# EAGLE library part PX11FS16NH (library con-jae)
Host Connector for PCMCIA Express Card 34mm MB-0127-2 Express Card Host Connector, JAE PX10BSB16 (SV 26-pol.)+ Express Card Host Connector Cage, JAE PX11FS16NH (Käfig für 34mm-Karten mit 4 Befestigungs- bzw. PE-Anschlusspunkten) Source: http://www.jae-connector.com/en/pdf/MB-0127-2E_PX10-11.pdf / PX11FS16NH SJ102129.pdf
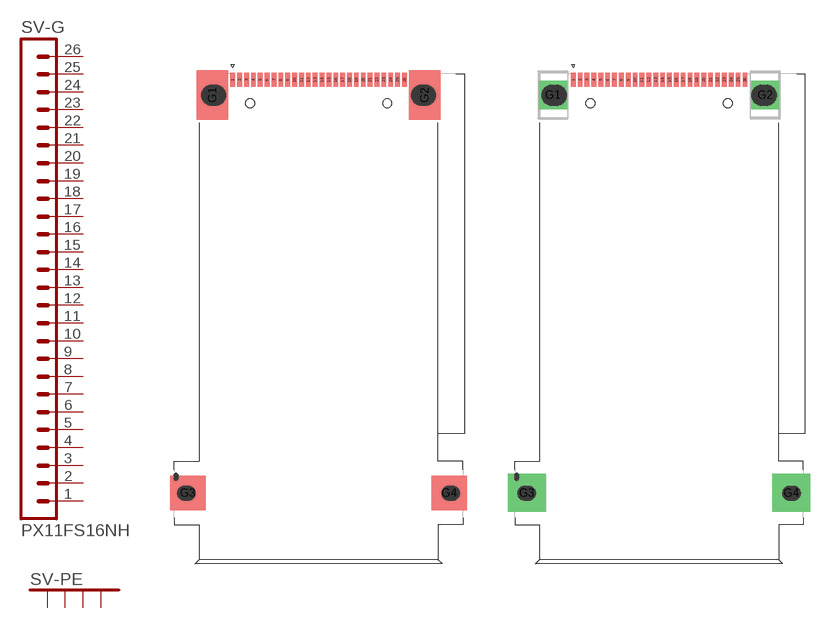
[diagram p1: symbol with the pads of EXPRCRD-PX10-PX11; footprints EXPRCRD-PX10-PX11, EXPRCRD-PX10-PX11_2]

Designator prefix SV; gates -G=SV-M1X26 -PE=PE-04

## PX11FS16NH-SMD  [EXPRCRD-PX10-PX11]
1  -G:1  pas
2  -G:2  pas
3  -G:3  pas
4  -G:4  pas
5  -G:5  pas
6  -G:6  pas
7  -G:7  pas
8  -G:8  pas
9  -G:9  pas
10  -G:10  pas
11  -G:11  pas
12  -G:12  pas
13  -G:13  pas
14  -G:14  pas
15  -G:15  pas
16  -G:16  pas
17  -G:17  pas
18  -G:18  pas
19  -G:19  pas
20  -G:20  pas
21  -G:21  pas
22  -G:22  pas
23  -G:23  pas
24  -G:24  pas
25  -G:25  pas
26  -G:26  pas
G1  -PE:G1  pas
G2  -PE:G2  pas
G3  -PE:G3  pas
G4  -PE:G4  pas

## PX11FS16NH  [EXPRCRD-PX10-PX11_2]
Pads as for EXPRCRD-PX10-PX11

## Footprint EXPRCRD-PX10-PX11 (pad centres in mm)
Host Connector for PCMCIA Express Card 34mm MB-0127-2 Express Card Host Connector, JAE PX10BSB16 (SV 26-pol.)+ Express Card Host Connector Cage, JAE PX11FS16NH (Käfig für 34mm-Karten mit 4 Befestigungs- bzw. PE-Anschlusspunkten) Source: http://www.jae-connector.com/en/pdf/MB-0127-2E_PX10-11.pdf / PX11FS16NH SJ102129.pdf
smd 0.7 x 2: 1 -12.5,2.25; 2 -11.5,2.25; 3 -10.5,2.25; 4 -9.5,2.25; 5 -8.5,2.25; 6 -7.5,2.25; 7 -6.5,2.25; 8 -5.5,2.25; 9 -4.5,2.25; 10 -3.5,2.25; 11 -2.5,2.25; 12 -1.5,2.25; 13 -0.5,2.25; 14 0.5,2.25; 15 1.5,2.25; 16 2.5,2.25; 17 3.5,2.25; 18 4.5,2.25; 19 5.5,2.25; 20 6.5,2.25; 21 7.5,2.25; 22 8.5,2.25; 23 9.5,2.25; 24 10.5,2.25; 25 11.5,2.25; 26 12.5,2.25
smd 4.55 x 7.2: G1 -15.45,0.05; G2 15.45,0.05
smd 5.15 x 5: G3 -19.025,-57.85; G4 19.025,-57.85
hole 1.3 at -10,-1.15
hole 1.3 at 10,-1.15

## Footprint EXPRCRD-PX10-PX11_2 (pad centres in mm)
Host Connector for PCMCIA Express Card 34mm MB-0127-2 Express Card Host Connector, JAE PX10BSB16 (SV 26-pol.)+ Express Card Host Connector Cage, JAE PX11FS16NH (Käfig für 34mm-Karten mit 4 Befestigungs- bzw. PE-Anschlusspunkten) Source: http://www.jae-connector.com/en/pdf/MB-0127-2E_PX10-11.pdf / PX11FS16NH SJ102129.pdf
smd 0.7 x 2: 1 -12.5,2.25; 2 -11.5,2.25; 3 -10.5,2.25; 4 -9.5,2.25; 5 -8.5,2.25; 6 -7.5,2.25; 7 -6.5,2.25; 8 -5.5,2.25; 9 -4.5,2.25; 10 -3.5,2.25; 11 -2.5,2.25; 12 -1.5,2.25; 13 -0.5,2.25; 14 0.5,2.25; 15 1.5,2.25; 16 2.5,2.25; 17 3.5,2.25; 18 4.5,2.25; 19 5.5,2.25; 20 6.5,2.25; 21 7.5,2.25; 22 8.5,2.25; 23 9.5,2.25; 24 10.5,2.25; 25 11.5,2.25; 26 12.5,2.25
drill 3.1 pad 4 square: G1 -15.45,0.05; G2 15.45,0.05
drill 2.2 pad 5.5 square: G3 -19.25,-57.85; G4 19.25,-57.85
hole 1.3 at -10,-1.15
hole 1.3 at 10,-1.15